# Altium footprint library SON65P300X300X100-9N.PcbLib: 1 footprints
Each footprint in its own frame and in the unit in brackets; x right, y up, seen from the top. Pads: shape width x height; smd on the part's side, far side on the other; paste and mask are expansions set on the pad; w line width, h text height; cw(c..) or ccw(c..) is an arc to the next point about the centre after c.
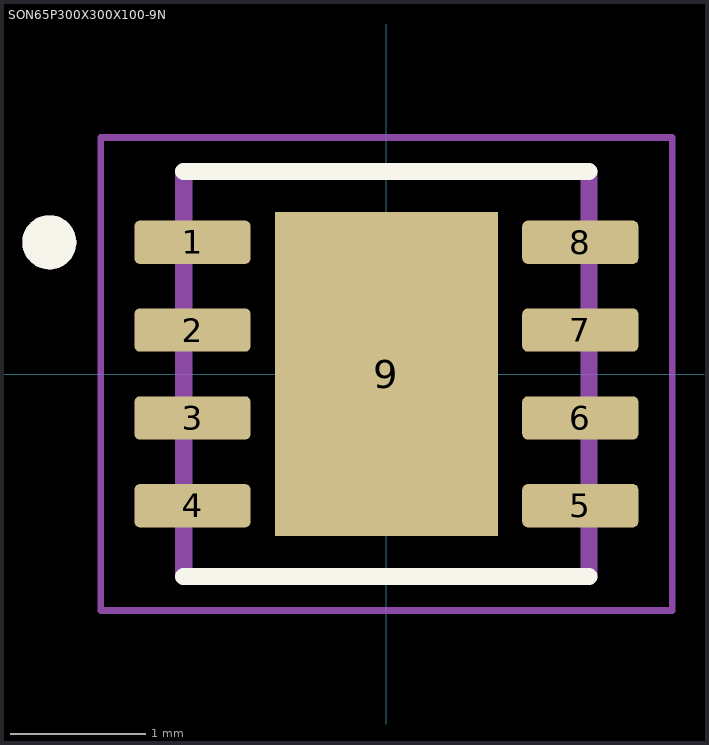
[diagram p0: the footprint, top view; thin cyan lines are the x and y axes]

## SON65P300X300X100-9N [mm]
pads (9):
  rrect25% 0.86x0.32 smd: 1(-1.435,0.975) 2(-1.435,0.325) 3(-1.435,-0.325) 4(-1.435,-0.975) 5(1.435,-0.975) 6(1.435,-0.325) 7(1.435,0.325) 8(1.435,0.975)
  rect 1.65x2.4 smd paste-2: 9(0,0)
Top Overlay:
  circle w0.2: c-2.495,0.975 r0.1
  lines w0.127: -1.5,-1.5 1.5,-1.5 ; -1.5,1.5 1.5,1.5
Top Paste:
  region: 0.52,-0.76 -0.52,-0.76 -0.52,0.76 0.52,0.76
Mechanical 13:
  circle w0.2: c-2.495,0.975 r0.1
  lines w0.127: -1.5,-1.5 -1.5,1.5 1.5,1.5 1.5,-1.5 -1.5,-1.5
Mechanical 15:
  lines w0.05: -2.115,-1.75 -2.115,1.75 2.115,1.75 2.115,-1.75 -2.115,-1.75
3D body "TPS2115ADRBR--3DModel-STEP-56544.STEP": height 1.25, standoff -0.26, extent -1.5,-1.477 1.5,1.651